# EAGLE library part V_REG_LDO (library Explore-Labs-EAGLE-Library)
Voltage Regulator LDO Standard 150mA LDO voltage regulator in SOT-23 layout. Micrel part MIC5205. BP (by-pass) pin is used to lower output noise with 470pF cap.
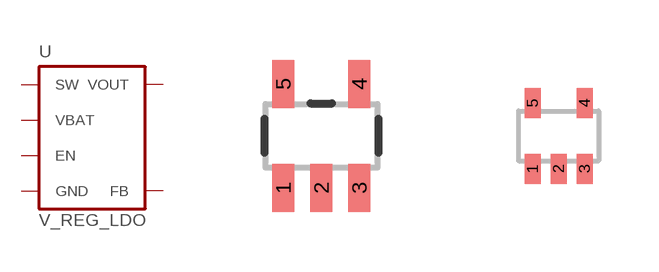
[diagram p11: symbol with the pads of SOT23-5; footprints SOT23-5, SC70]

Designator prefix U

## V_REG_LDOSMD  [SOT23-5]
1  SW  pas
2  GND  sup
3  EN  in
4  FB  in
5  VBAT  in

## V_REG_LDOSMD2  [SC70]
Pads as for SOT23-5

## V_REG_LDO  [DDC]
1  SW  pas
2  GND  sup
3  EN  in
4  FB  in
5  VBAT  in
6  VOUT  out

## Footprint SOT23-5 (pad centres in mm)
Small Outline Transistor
smd 0.55 x 1.2: 1 -0.95,-1.3; 2 0,-1.3; 3 0.95,-1.3; 4 0.95,1.3; 5 -0.95,1.3

## Footprint SC70 (pad centres in mm)
smd 0.4 x 0.75: 1 -0.65,-0.825; 2 0,-0.825; 3 0.65,-0.825; 4 0.65,0.825; 5 -0.65,0.825

## Footprint DDC (pad centres in mm)
smd 1.4 x 0.6: 1 -1.4,0.95; 2 -1.4,0; 3 -1.4,-0.95; 4 1.4,-0.95; 5 1.4,0; 6 1.4,0.95